# Altium footprint library SnapEDApcb.PcbLib: 1 footprints
Each footprint in its own frame and in the unit in brackets; x right, y up, seen from the top. Pads: shape width x height; smd on the part's side, far side on the other; paste and mask are expansions set on the pad; w line width, h text height; cw(c..) or ccw(c..) is an arc to the next point about the centre after c.
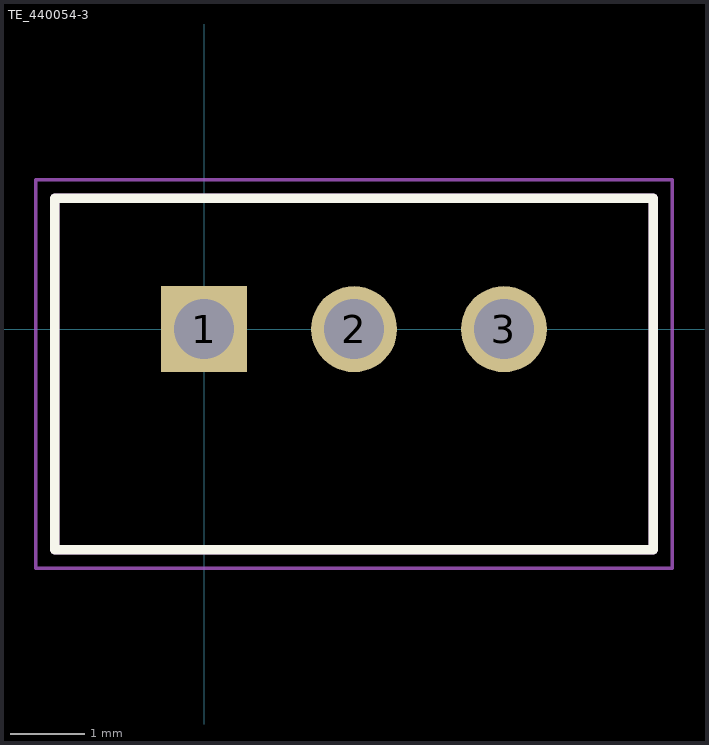
[diagram p0: the footprint, top view; thin cyan lines are the x and y axes]

## TE_440054-3 [mm]
pads (3):
  rect 1.15x1.15 hole 0.8: 1(0,0)
  round 1.15 hole 0.8: 2(2.007,0) 3(4.013,0)
Top Overlay:
  lines w0.127: -2,-2.95 -2,1.75 6.013,1.75 6.013,-2.95 -2,-2.95
Mechanical 13:
  lines w0.127: -2,-2.95 -2,1.75 6.013,1.75 6.013,-2.95 ; -2,-2.95 6.013,-2.95 ; -2,-2.95 6.013,-2.95
Mechanical 15:
  lines w0.05: -2.25,-3.2 -2.25,2 6.263,2 6.263,-3.2 -2.25,-3.2
3D body "440054-3.step": height 6.06, standoff -3.39, extent -1.993,-2.95 6.007,1.75